# EAGLE library part ADP2302 (library PowerDistributionv1)
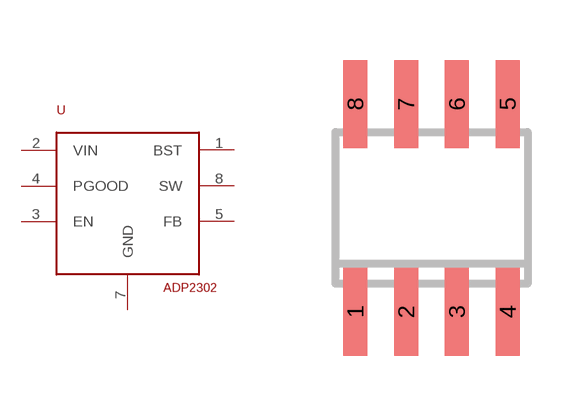
[diagram p0: symbol with the pads of SOIC8; footprint SOIC8]

Designator prefix -

## ADP2302  [SOIC8]
1  BST
2  VIN
3  EN
4  PGOOD
5  FB
7  GND
8  SW

## Footprint SOIC8 (pad centres in mm)
Small Outline IC
smd 0.6 x 2.2: 1 -1.905,-2.6; 2 -0.635,-2.6; 3 0.635,-2.6; 4 1.905,-2.6; 5 1.905,2.6; 6 0.635,2.6; 7 -0.635,2.6; 8 -1.905,2.6